# EAGLE library part DEVEBOX_STM32_G030 (library _mtvl.cells)
DevEBox STM32_G030 development board
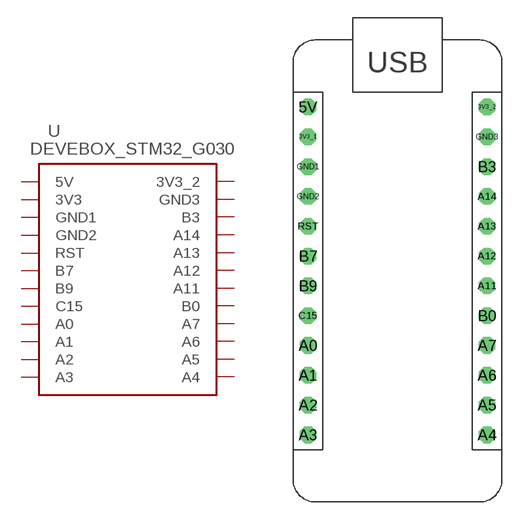
[diagram p8: symbol with the pads of DEVEBOX_STM32_G030; footprint DEVEBOX_STM32_G030]

Designator prefix U

## DEVEBOX_STM32_G030  [DEVEBOX_STM32_G030]
3V3_1  3V3
3V3_2  3V3_2
5V  5V
A0  A0
A1  A1
A2  A2
A3  A3
A4  A4
A5  A5
A6  A6
A7  A7
A11  A11
A12  A12
A13  A13
A14  A14
B0  B0
B3  B3
B7  B7
B9  B9
C15  C15
GND1  GND1
GND2  GND2
GND3  GND3
RST  RST

## Footprint DEVEBOX_STM32_G030 (pad centres in mm)
DevEBox STM32_G030 development board
drill 0.9 octagon: 3V3_1 -7.62,11.43; 3V3_2 7.62,13.97; 5V -7.62,13.97; A0 -7.62,-6.35; A1 -7.62,-8.89; A2 -7.62,-11.43; A3 -7.62,-13.97; A4 7.62,-13.97; A5 7.62,-11.43; A6 7.62,-8.89; A7 7.62,-6.35; A11 7.62,-1.27; A12 7.62,1.27; A13 7.62,3.81; A14 7.62,6.35; B0 7.62,-3.81; B3 7.62,8.89; B7 -7.62,1.27; B9 -7.62,-1.27; C15 -7.62,-3.81; GND1 -7.62,8.89; GND2 -7.62,6.35; GND3 7.62,11.43; RST -7.62,3.81